# Altium schematic symbol library TE 640457-3.Schlib: 1 symbol
Pins are listed as number, name and electrical type; pins without a type are passive.

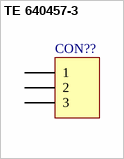
[diagram p0: symbol TE 640457-3]

## TE 640457-3
designator CON??
Header, Friction Lock; MTA-100; 3; 250 VAC; Manufacturer: TE; TYPE: Connectors; ComponentLink1Description: Datasheet link; Supplier 1: Mouser; Technology: Headers
footprint 640457-3
pins: 1, 2, 3